# Altium footprint library SBTCJ1375.PcbLib: 1 footprints
Each footprint in its own frame and in the unit in brackets; x right, y up, seen from the top. Pads: shape width x height; smd on the part's side, far side on the other; paste and mask are expansions set on the pad; w line width, h text height; cw(c..) or ccw(c..) is an arc to the next point about the centre after c.
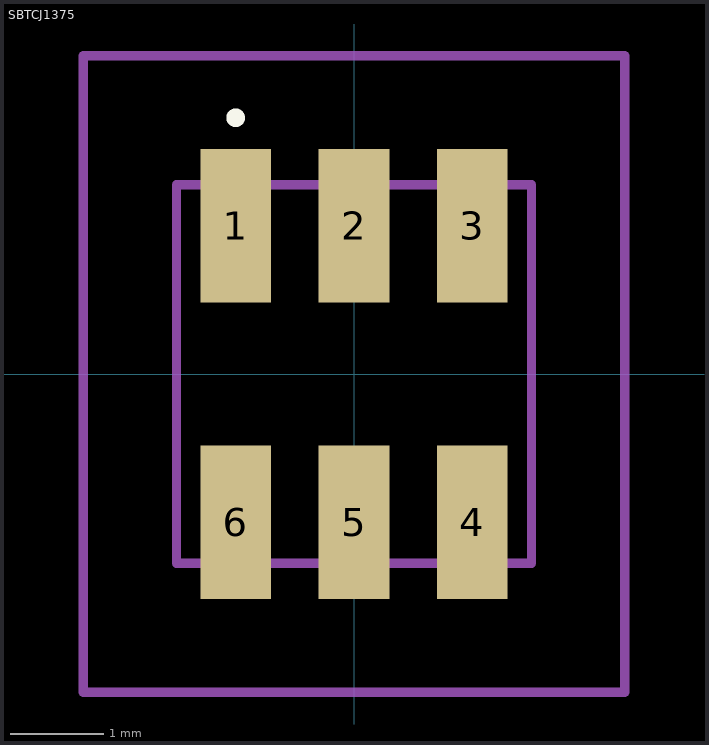
[diagram p0: the footprint, top view; thin cyan lines are the x and y axes]

## SBTCJ1375 [mm]
pads (6):
  rect 0.76x1.65 smd: 1(-1.27,1.59) 2(0,1.59) 3(1.27,1.59) 4(1.27,-1.59) 5(0,-1.59) 6(-1.27,-1.59)
Top Overlay:
  lines w0.1: -1.27,2.7 cw(c-1.27,2.75) -1.27,2.8 ; -1.27,2.7 -1.27,2.7 ; -1.27,2.7 ccw(c-1.27,2.75) -1.27,2.8 ; -1.27,2.8 -1.27,2.8
Mechanical 15:
  lines w0.1: -1.905,-2.03 1.905,-2.03 1.905,2.03 -1.905,2.03 -1.905,-2.03
Mechanical 20:
  lines w0.1: -2.905,-3.415 2.905,-3.415 2.905,3.415 -2.905,3.415 -2.905,-3.415